# Altium integrated library TL074CPWRG4.IntLib: 1 symbol
Pins are listed as number, name and electrical type; pins without a type are passive.

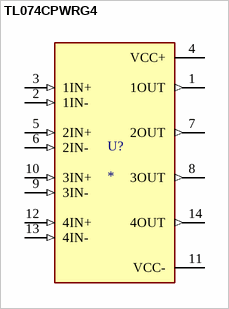
[diagram p0: symbol TL074CPWRG4]

## TL074CPWRG4
designator U?
Quad Low-Noise JFET-Input General-Purpose Operational Amplifier 14-TSSOP 0 to 70; MF: Texas Instruments; MP: TL074CPWRG4; SnapEDA_Link: https://www.snapeda.com/parts/TL074CPWRG4/Texas+Instruments/view-part/?ref=snap; Package: TSSOP-14 Texas Instruments; Value: *; Check_prices: https://www.snapeda.com/parts/TL074CPWRG4/Texas+Instruments/view-part/?ref=eda
footprint SOP65P640X120-14N
pins: 1 1OUT (out), 2 1IN- (in), 3 1IN+ (in), 4 VCC+ (power), 5 2IN+ (in), 6 2IN- (in), 7 2OUT (out), 8 3OUT (out), 9 3IN- (in), 10 3IN+ (in), 11 VCC- (power), 12 4IN+ (in), 13 4IN- (in), 14 4OUT (out)